# EAGLE library part SIMLOCK492 (library JLB6_Connec)
Support SIM Amphenol 6 points
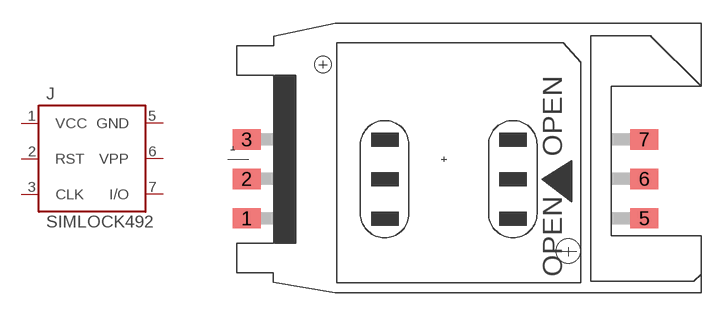
[diagram p22: symbol with the pads of 5002; footprint 5002]

Designator prefix J

## SIMLOCK492  [5002]
1  VCC
2  RST
3  CLK
5  GND
6  VPP
7  I/O

## Footprint 5002 (pad centres in mm)
6 Contacts (3+3), low profile drawn by DeSIG desig@radikaldesig.com
smd 1.8 x 1.3: 1 -12.71,-3.81; 2 -12.71,-1.27; 3 -12.71,1.27; 5 12.89,-3.81; 6 12.89,-1.27; 7 12.89,1.27
hole 1.067 at -7.798,6.096
hole 1.575 at 8.001,-5.918